# EAGLE library part POWER-9.61-MEANWELL (library openbuilds-eagle-library)
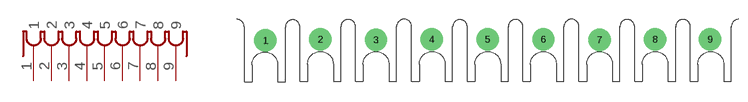
[diagram p0: symbol with the pads of POWER-9.61-PSU-MEANWELL; footprint POWER-9.61-PSU-MEANWELL]

Designator prefix -

## POWER-9.61-MEANWELL  [POWER-9.61-PSU-MEANWELL]
1  1
2  2
3  3
4  4
5  5
6  6
7  7
8  8
9  9

## Footprint POWER-9.61-PSU-MEANWELL (pad centres in mm)
drill 1.5 pad 3.81: 1 18.5,1.4; 2 27.9,1.6; 3 37.4,1.5; 4 46.9,1.6; 5 56.5,1.6; 6 66,1.6; 7 75.6,1.5; 8 85.1,1.6; 9 94.5,1.6